# EAGLE library part MONSTERMOTO (library RaspberryPi)
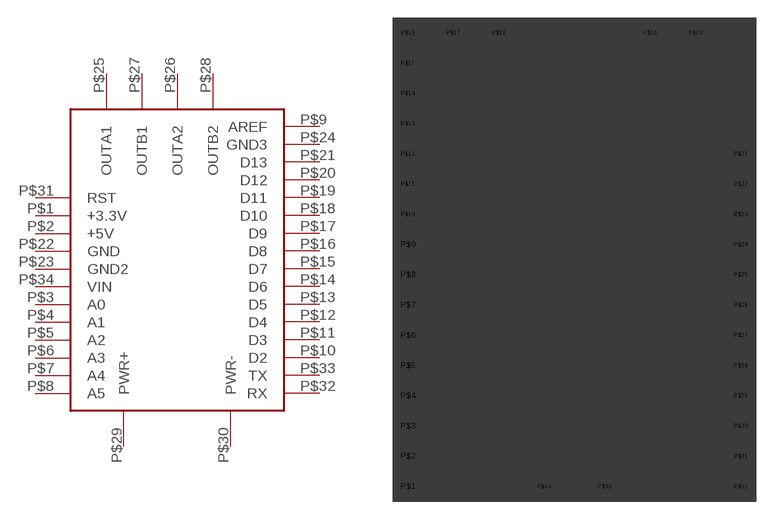
[diagram p2: symbol with the pads of MONSTERMOTO; footprint MONSTERMOTO]

Designator prefix -

## MONSTERMOTO  [MONSTERMOTO]
P$1  +3.3V
P$2  +5V
P$3  A0
P$4  A1
P$5  A2
P$6  A3
P$7  A4
P$8  A5
P$9  AREF
P$10  D2
P$11  D3
P$12  D4
P$13  D5
P$14  D6
P$15  D7
P$16  D8
P$17  D9
P$18  D10
P$19  D11
P$20  D12
P$21  D13
P$22  GND
P$23  GND2
P$24  GND3
P$25  OUTA1
P$26  OUTA2
P$27  OUTB1
P$28  OUTB2
P$29  PWR+
P$30  PWR-
P$31  RST
P$32  RX
P$33  TX
P$34  VIN

## Footprint MONSTERMOTO (pad centres in mm)
drill 0.6 square: P$1 -13.97,-19.05; P$2 -13.97,-16.51; P$3 -13.97,-13.97; P$4 -13.97,-11.43; P$5 -13.97,-8.89; P$6 -13.97,-6.35; P$7 -13.97,-3.81; P$8 -13.97,-1.27; P$9 -13.97,1.27; P$10 -13.97,3.81; P$11 -13.97,6.35; P$12 -13.97,8.89; P$13 -13.97,11.43; P$14 -13.97,13.97; P$15 -13.97,16.51; P$16 -13.97,19.05; P$17 -10.16,19.05; P$18 -6.35,19.05; P$19 6.35,19.05; P$20 10.16,19.05; P$21 13.97,8.89; P$22 13.97,6.35; P$23 13.97,3.81; P$24 13.97,1.27; P$25 13.97,-1.27; P$26 13.97,-3.81; P$27 13.97,-6.35; P$28 13.97,-8.89; P$29 13.97,-11.43; P$30 13.97,-13.97; P$31 13.97,-16.51; P$32 13.97,-19.05; P$33 2.54,-19.05; P$34 -2.54,-19.05
hole 0.35 at -13.97,-19.05
hole 0.35 at -13.97,-16.51
hole 0.35 at -13.97,-13.97
hole 0.35 at -13.97,-11.43
hole 0.35 at -13.97,-8.89
hole 0.35 at -13.97,-6.35
hole 0.35 at -13.97,-3.81
hole 0.35 at -13.97,-1.27
hole 0.35 at -13.97,1.27
hole 0.35 at -13.97,3.81
hole 0.35 at -13.97,6.35
hole 0.35 at -13.97,8.89
hole 0.35 at 13.97,8.89
hole 0.35 at 13.97,6.35
hole 0.35 at 13.97,3.81
hole 0.35 at 13.97,1.27
hole 0.35 at 13.97,-1.27
hole 0.35 at 13.97,-3.81
hole 0.35 at 13.97,-6.35
hole 0.35 at 13.97,-8.89
hole 0.35 at 13.97,-11.43
hole 0.35 at 13.97,-13.97
hole 0.35 at 13.97,-16.51
hole 0.35 at 13.97,-19.05
hole 0.35 at -10.16,19.05
hole 0.35 at 10.16,19.05
hole 0.35 at -2.54,-19.05
hole 0.35 at 2.54,-19.05
hole 0.35 at -6.35,19.05
hole 0.35 at 6.35,19.05
hole 0.35 at -13.97,11.43
hole 0.35 at -13.97,13.97
hole 0.35 at -13.97,16.51
hole 0.35 at -13.97,19.05